# Altium schematic symbol library Caps.SchLib: 2 symbols
Pins are listed as number, name and electrical type; pins without a type are passive.

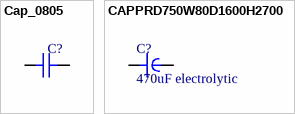
[diagram p0: symbols Cap_0805 to CAPPRD750W80D1600H2700]

## Cap_0805
designator C?
Cap 0805
footprint 0805
pins: 1, 2

## CAPPRD750W80D1600H2700
designator C?, comment 470uF electrolytic
470 µF 100 V Aluminum Electrolytic Capacitors Radial, Can 282mOhm @ 120Hz 2000 Hrs @ 85°C
footprint CAPPRD750W80D1600H2700
pins: 1, 2